# Altium footprint library My.PcbLib: 235 footprints (part 5 of 15)
Each footprint in its own frame and in the unit in brackets; x right, y up, seen from the top. Pads: shape width x height; smd on the part's side, far side on the other; paste and mask are expansions set on the pad; w line width, h text height; cw(c..) or ccw(c..) is an arc to the next point about the centre after c.
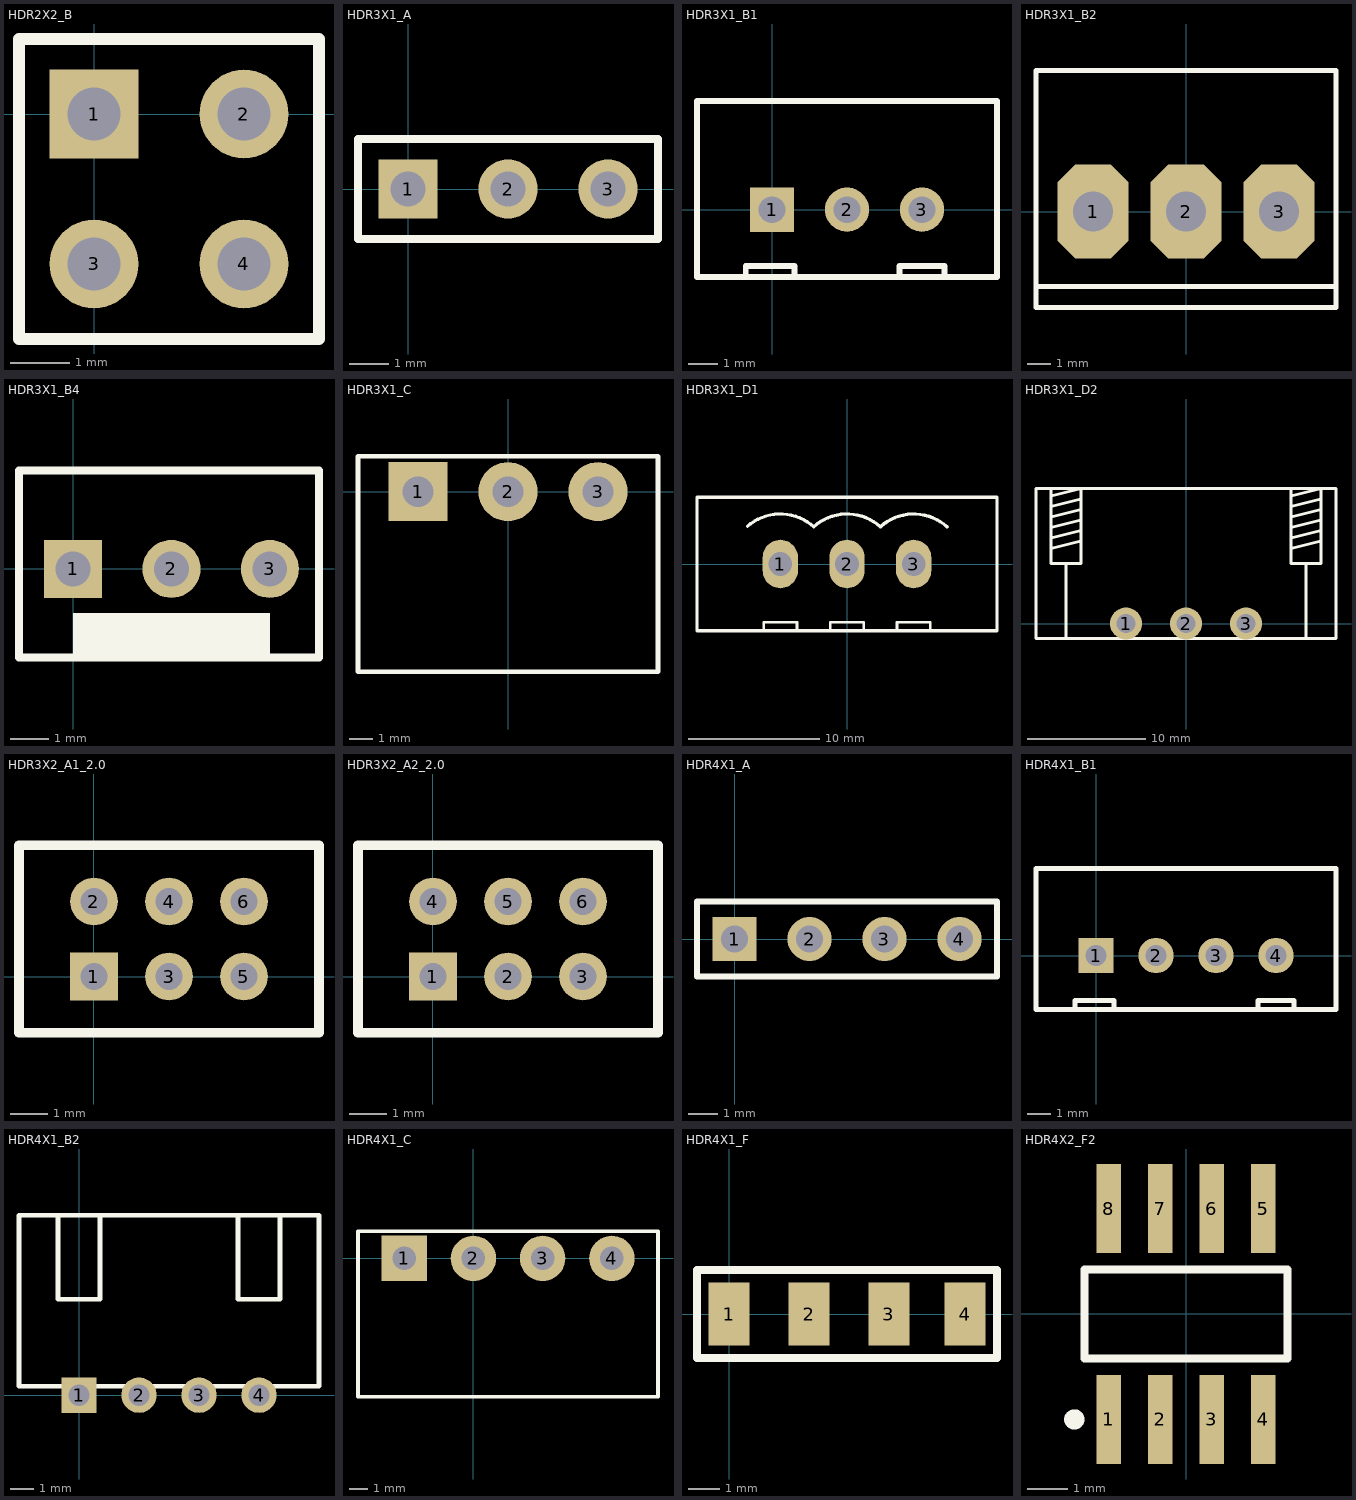
[diagram p4: the footprints below, top view; thin cyan lines are the x and y axes]

## HDR2X2_B [mm] "Connector; Header; 2 Position"
height 7.01
pads (4):
  rect 1.5x1.5 hole 0.9: 1(0,0)
  round 1.5 hole 0.9: 2(2.54,0) 3(0,-2.54) 4(2.54,-2.54)
Top Overlay:
  lines w0.2: -1.27,-3.81 3.81,-3.81 3.81,1.27 -1.27,1.27 -1.27,-3.81

## HDR3X1_A [mm] "Connector; Header; 3 Position"
height 1.5
pads (3):
  rect 1.5x1.5 hole 0.9: 1(0,0)
  round 1.5 hole 0.9: 2(2.54,0) 3(5.08,0)
Top Overlay:
  lines w0.2: -1.27,-1.27 -1.27,1.27 6.35,1.27 6.35,-1.27 -1.27,-1.27

## HDR3X1_B1 [mm] "Connector; Header; 3 Position"
height 1.5
pads (3):
  rect 1.5x1.5 hole 0.9: 1(0,0)
  round 1.5 hole 0.9: 2(2.54,0) 3(5.08,0)
Top Overlay:
  lines w0.2: -0.889,-2.286 -0.889,-1.905 0.762,-1.905 0.762,-2.286 ; 4.318,-2.286 4.318,-1.905 5.842,-1.905 5.842,-2.286 ; -2.54,-2.286 -2.54,3.683 7.62,3.683 7.62,-2.286 -2.54,-2.286
3D body: height 1.5, standoff 0, extent -2.54,-2.286 7.62,3.683

## HDR3X1_B2 [mm] "Connector; Header; 3 Position"
height 1.5
pads (3):
  oct 3x4 hole 1.7: 1(-3.937,0) 2(0,0) 3(3.937,0)
Top Overlay:
  lines w0.2: -6.35,-3.175 6.35,-3.175 ; -2.54,-4.064 2.54,-4.064 ; -6.35,-4.064 -6.35,5.969 6.35,5.969 6.35,-4.064 -6.35,-4.064

## HDR3X1_B4 [mm] "Connector; Header; 4 Position"
height 1.6
pads (3):
  rect 1.5x1.5 hole 0.9: 1(0,0)
  round 1.5 hole 0.9: 2(2.54,0) 3(5.08,0)
Top Overlay:
  rectangle: 0,-2.286 5.08,-1.143
  lines w0.2: -1.397,-2.286 6.35,-2.286 6.35,2.54 -1.397,2.54 -1.397,-2.286
3D body: height 1.5, standoff 0, extent -1.397,-2.286 6.35,2.54

## HDR3X1_C [mm] "3.81MM接插件"
height 7
pads (3):
  rect 2.5x2.5 hole 1.3: 1(-3.81,0)
  round 2.5 hole 1.3: 2(0,0) 3(3.81,0)
Top Overlay:
  lines w0.2: -6.35,-7.62 -6.35,1.5 6.35,1.5 6.35,-7.62 -6.35,-7.62
3D body: height 6, standoff 0, extent -6.35,-7.62 6.35,1.397

## HDR3X1_D1 [mm] "5.08mm端子"
height 12.7
pads (3):
  oval 2.7x3.7 hole 1.8: 1(-5.08,0) 2(0,0) 3(5.08,0)
Top Overlay:
  lines w0.2: -6.35,-5.08 -6.35,-4.445 -3.81,-4.445 -3.81,-5.08 ; -1.27,-5.08 -1.27,-4.445 1.27,-4.445 1.27,-5.08 ; 3.81,-5.08 3.81,-4.445 6.35,-4.445 6.35,-5.08
  lines w0.254: -7.58,2.875 cw(c-5.08,0) -2.517,2.819 ; -2.538,2.842 cw(c0,0) 2.563,2.819 ; 2.542,2.842 cw(c5.08,0) 7.643,2.819 ; -11.43,-5.08 11.43,-5.08 11.43,5.08 -11.43,5.08 -11.43,-5.08

## HDR3X1_D2 [mm] "5.08mm端子"
height 12.7
pads (3):
  round 2.7 hole 1.6: 1(-5.08,0) 2(0,0) 3(5.08,0)
Top Overlay:
  lines w0.254: -11.43,6.35 -8.89,6.985 ; -11.43,7.239 -8.89,7.874 ; -11.43,8.128 -8.89,8.763 ; -11.43,9.017 -8.89,9.652 ; -11.43,9.906 -8.89,10.541 ; -11.43,10.795 -8.89,11.43 -8.89,5.08 -11.43,5.08 -11.43,11.43 ; -10.16,-1.27 -10.16,5.08 ; 8.89,6.35 11.43,6.985 ; 8.89,7.239 11.43,7.874 ; 8.89,8.128 11.43,8.763 ; 8.89,9.017 11.43,9.652 ; 8.89,9.906 11.43,10.541 ; 8.89,10.795 11.43,11.43 11.43,5.08 8.89,5.08 8.89,11.43 ; 10.16,-1.27 10.16,5.08 ; -12.7,-1.27 -12.7,11.43 12.7,11.43 12.7,-1.27 -12.7,-1.27

## HDR3X2_A1_2.0 [mm]
height 8
pads (6):
  rect 1.27x1.27 hole 0.711: 1(0,0)
  round 1.27 hole 0.711: 2(0,2) 3(2,0) 4(2,2) 5(4,0) 6(4,2)
Top Overlay:
  lines w0.254: -2,-1.5 6,-1.5 6,3.5 -2,3.5 -2,-1.5

## HDR3X2_A2_2.0 [mm]
height 8
pads (6):
  rect 1.27x1.27 hole 0.711: 1(0,0)
  round 1.27 hole 0.711: 2(2,0) 3(4,0) 4(0,2) 5(2,2) 6(4,2)
Top Overlay:
  lines w0.254: -2,-1.5 6,-1.5 6,3.5 -2,3.5 -2,-1.5

## HDR4X1_A [mm] "Connector; Header; 4 Position"
height 1.6
pads (4):
  rect 1.5x1.5 hole 0.9: 1(0,0)
  round 1.5 hole 0.9: 2(2.54,0) 3(5.08,0) 4(7.62,0)
Top Overlay:
  lines w0.2: -1.27,-1.27 -1.27,1.27 8.89,1.27 8.89,-1.27 -1.27,-1.27

## HDR4X1_B1 [mm] "Connector; Header; 4 Position"
height 1.6
pads (4):
  rect 1.5x1.5 hole 0.9: 1(0,0)
  round 1.5 hole 0.9: 2(2.54,0) 3(5.08,0) 4(7.62,0)
Top Overlay:
  lines w0.2: -0.889,-2.286 -0.889,-1.905 0.762,-1.905 0.762,-2.286 ; 6.858,-2.286 6.858,-1.905 8.382,-1.905 8.382,-2.286 ; -2.54,-2.286 -2.54,3.683 10.16,3.683 10.16,-2.286 -2.54,-2.286
3D body: height 1.5, standoff 0, extent -2.413,-2.159 10.033,3.556

## HDR4X1_B2 [mm] "Connector; Header; 4 Position"
height 1.6
pads (4):
  rect 1.5x1.5 hole 0.9: 1(0,0)
  round 1.5 hole 0.9: 2(2.54,0) 3(5.08,0) 4(7.62,0)
Top Overlay:
  lines w0.2: -0.889,7.62 -0.889,4.064 0.889,4.064 0.889,7.62 ; 6.731,7.62 6.731,4.064 8.509,4.064 8.509,7.62 ; -2.54,0.381 10.16,0.381 10.16,7.62 -2.54,7.62 -2.54,0.381
3D body: height 1.5, standoff 0, extent -2.54,0.381 10.16,7.62

## HDR4X1_C [mm] "3.81MM接插件"
height 7
pads (4):
  rect 2.5x2.5 hole 1.3: 1(-3.81,0)
  round 2.5 hole 1.3: 2(0,0) 3(3.81,0) 4(7.62,0)
Top Overlay:
  lines w0.2: -6.35,-7.62 -6.35,1.5 10.16,1.5 10.16,-7.62 -6.35,-7.62
3D body: height 6, standoff 0, extent -6.35,-7.62 10.16,1.5

## HDR4X1_F [mm]
pads (4):
  rect 1.3x2 smd: 1(0,0) 2(2.54,0) 3(5.08,0) 4(7.493,0)
Top Overlay:
  lines w0.254: -1.016,-1.397 8.509,-1.397 8.509,1.397 -1.016,1.397 -1.016,-1.397

## HDR4X2_F2 [mm]
height 1.75
pads (8):
  rect 0.6x2.2 smd: 1(-1.905,-2.6) 2(-0.635,-2.6) 3(0.635,-2.6) 4(1.905,-2.6) 5(1.905,2.6) 6(0.635,2.6) 7(-0.635,2.6) 8(-1.905,2.6)
Top Overlay:
  circle w0.25: c-2.755,-2.6 r0.125
  lines w0.2: -2.5,-1.1 -2.5,-0.367 -2.5,1.1 2.5,1.1 2.5,-1.1 -2.5,-1.1